# Altium integrated library Tx_Electrode_PA_Power.IntLib: 43 symbols
Pins are listed as number, name and electrical type; pins without a type are passive.

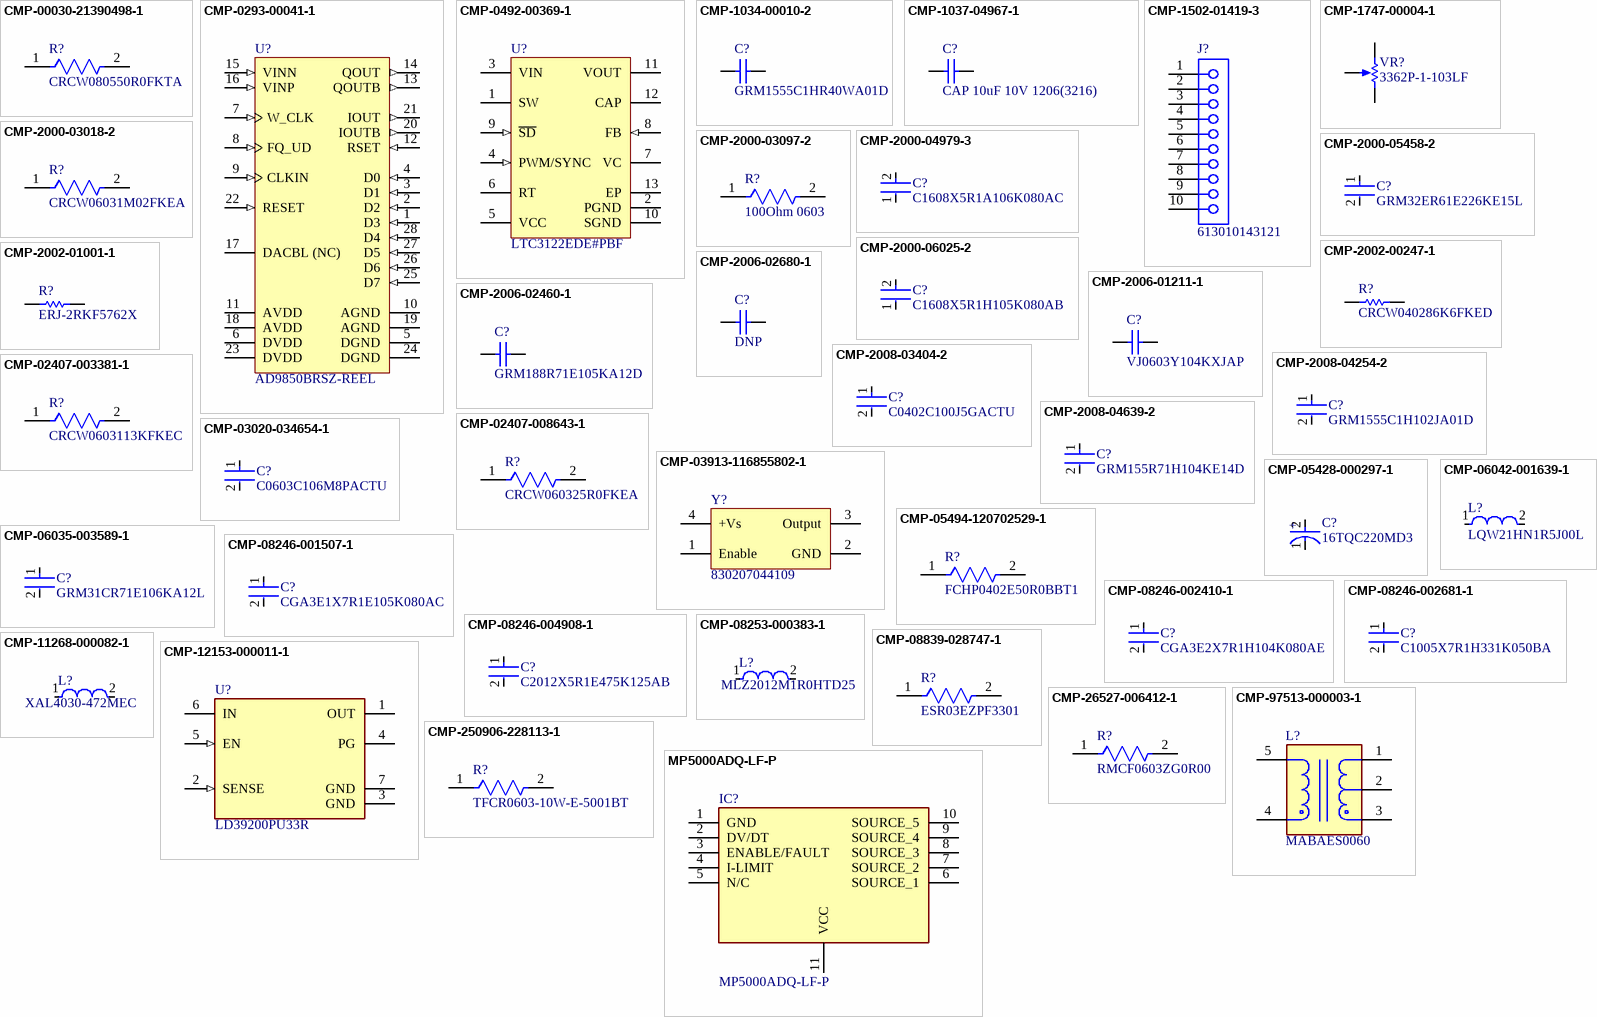
[diagram p0: symbols CMP-00030-21390498-1 to MP5000ADQ-LF-P]

## CMP-00030-21390498-1
designator R?, comment CRCW080550R0FKTA
CRCW080550R0FKTA Res Thick Film 0805 50 Ohm 1% 0.125W(1/8W) ±100ppm/C Pad SMD Automotive T/R; NexarPartId: 21390498; Manufacturer: Vishay; Temperature Coefficient: 100ppm/°C; Resistance: 50Ω; Voltage Rating: 150V; Power Rating: 125mW; Length: 2mm; Case Code (Imperial): 0805; Height: 450µm; Contact Plating: Lead, Tin; Width: 1.25mm; Max Operating Temperature: 155°C; Case Code (Metric): 2012; Min Operating Temperature: -55°C; Tolerance: 1%; Case/Package: 0805; Lead Free: Contains Lead; RoHS: Non-Compliant; Composition: Thick Film; Weight: 5.499807mg; Manufacturer Part Number: CRCW080550R0FKTA
footprint FP-D12-CRCW0805-MFG (SMD Chip Resistor, 5.23 kOhm, ± 1%, 125 mW, 0805 [2012 Metric], Thick Film, General Purpose)
footprint FP-D12-CRCW0805-IPC_A (SMD Chip Resistor, 5.23 kOhm, ± 1%, 125 mW, 0805 [2012 Metric], Thick Film, General Purpose)
footprint FP-D12-CRCW0805-IPC_B (SMD Chip Resistor, 5.23 kOhm, ± 1%, 125 mW, 0805 [2012 Metric], Thick Film, General Purpose)
footprint FP-D12-CRCW0805-IPC_C (SMD Chip Resistor, 5.23 kOhm, ± 1%, 125 mW, 0805 [2012 Metric], Thick Film, General Purpose)
pins: 1, 2

## CMP-0293-00041-1
designator U?, comment AD9850BRSZ-REEL
CMOS, 125 MHz Complete DDS Synthesizer, 10-Bit, Parallel, Serial, RS-28, 1500 Reel, Pb-Free; Manufacturer: Analog Devices; Tuning Word Width (bits): 32bit; Master fclk: 125MHz; Resolution (Bits): 10bit; REFCLK Multiplier: No; Compliance Range (V): 1.5V; FS Iout (mA nom): 20mA; I Supply total (max): 96mA; ComponentLink3Description: Package Specification; Code_JEDEC: MO-150-AH; ComponentLink1URL: www.analog.com; I/O Interface: Parallel, Serial; PackageDescription: 28-Lead Shrink Small Outline Package [SSOP]; ComponentLink2URL: http://www.analog.com/static/imported-files/data_sheets/AD9850.pdf; ComponentLink3URL: http://www.analog.com/static/imported-files/packages/32122249223724RS_28.pdf; ComponentLink2Description: Datasheet; PackageVersion: revA, 1997; ComponentLink1Description: Manufacturer URL; PackageReference: RS-28; DatasheetVersion: Rev. H; Manufacturer Part Number: AD9850BRSZ-REEL
footprint ADI-RS-28_N (SOP, 28-Leads, Body 10.2x5.3mm, Pitch 0.65mm, IPC Medium Density)
footprint ADI-RS-28_M (SOP, 28-Leads, Body 10.2x5.3mm, Pitch 0.65mm, IPC Low Density)
footprint ADI-RS-28_L (SOP, 28-Leads, Body 10.2x5.3mm, Pitch 0.65mm, IPC High Density)
pins: 1 D3 (in) "8-Bit Data Input. This is the 8-bit data port for iteratively loading the 32-bit frequency and the 8-bit phase/ control word. D7 = MSB; D0 = LSB. [see datasheet]", 2 D2 (in) "8-Bit Data Input. This is the 8-bit data port for iteratively loading the 32-bit frequency and the 8-bit phase/ control word. D7 = MSB; D0 = LSB. [see datasheet]", 3 D1 (in) "8-Bit Data Input. This is the 8-bit data port for iteratively loading the 32-bit frequency and the 8-bit phase/ control word. D7 = MSB; D0 = LSB. [see datasheet]", 4 D0 (in) "8-Bit Data Input. This is the 8-bit data port for iteratively loading the 32-bit frequency and the 8-bit phase/ control word. D7 = MSB; D0 = LSB. [see datasheet]", 5 DGND (power) "Digital Ground. These are the ground return leads for the digital circuitry", 6 DVDD (power) "Supply Voltage Leads for Digital Circuitry", 7 W_CLK (in) "Word Load Clock. This clock is used to load the parallel or serial frequency/phase/control words", 8 FQ_UD (in) "Frequency Update. On the rising edge of this clock, the DDS updates to the frequency (or phase) loaded in the data input register; it then resets the pointer to Word 0", 9 CLKIN (in) "Reference Clock Input. This may be a continuous CMOS-level pulse train or sine input biased at1/2 V supply. The rising edge of this clock initiates operatio", 10 AGND (power) "Analog Ground. These leads are the ground return for the analog circuitry (DAC and comparator)", 11 AVDD (power) "Supply Voltage for the Analog Circuitry (DAC and Comparator).", 12 RSET (in) "DAC’s External RSET Connection. This resistor value sets the DAC full-scale output current. For normal applications (FS IOUT = 10 mA), the value for RSET is 3.9 k? connected to ground. [see datasheet]", 13 QOUTB (out) "Output Complement. This is the comparator’s complement output.", 14 QOUT (out) "Output True. This is the comparator’s true output.", 15 VINN (in) "Inverting Voltage Input. This is the comparator’s negative input.", 16 VINP (in) "Noninverting Voltage Input. This is the comparator’s positive input.", 17 DACBL (NC) "DAC Baseline. This is the DAC baseline voltage reference; this lead is internally bypassed and should normally be considered a no connect for optimum performance", 18 AVDD (power) "Supply Voltage for the Analog Circuitry (DAC and Comparator).", 19 AGND (power) "Analog Ground. These leads are the ground return for the analog circuitry (DAC and comparator)", 20 IOUTB (out) "Complementary Analog Output of the DAC.", 21 IOUT (out) "Analog Current Output of the DAC.", 22 RESET (in) "Reset. This is the master reset function; when set high, it clears all registers (except the input register), and the DAC output goes to cosine 0 after additional clock cycles-see Figure 7", 23 DVDD (power) "Supply Voltage Leads for Digital Circuitry", 24 DGND (power) "Digital Ground. These are the ground return leads for the digital circuitry", 25 D7 (in) "8-Bit Data Input. This is the 8-bit data port for iteratively loading the 32-bit frequency and the 8-bit phase/ control word. D7 = MSB; D0 = LSB. [see datasheet]", 26 D6 (in) "8-Bit Data Input. This is the 8-bit data port for iteratively loading the 32-bit frequency and the 8-bit phase/ control word. D7 = MSB; D0 = LSB. [see datasheet]", 27 D5 (in) "8-Bit Data Input. This is the 8-bit data port for iteratively loading the 32-bit frequency and the 8-bit phase/ control word. D7 = MSB; D0 = LSB. [see datasheet]", 28 D4 (in) "8-Bit Data Input. This is the 8-bit data port for iteratively loading the 32-bit frequency and the 8-bit phase/ control word. D7 = MSB; D0 = LSB. [see datasheet]"

## CMP-0492-00369-1
designator U?, comment LTC3122EDE#PBF
2.5 A Synchronous Step-Up DC/DC Converter with Output Disconnect, 12-pin SON (DE-UE-12), -40 to 125 degC, Pb-Free; Manufacturer: Linear Technology; Manufacturer: Analog Devices; Number of Outputs: 1; ComponentLink2URL: http://cds.linear.com/docs/en/datasheet/3122fa.pdf; ComponentLink1URL: http://www.linear.com/; Code_JEDEC: MO-229; ComponentLink2Description: Datasheet; ComponentLink1Description: Manufacturer URL; PackageReference: DE-UE-12; PackageVersion: Rev. D, 06/2010; ComponentLink3Description: Package Specification; PackageDescription: 12-Pin Plastic DFN, Body 4 x 3 mm, Pitch 0.5 mm; PartNumber: LTC3122EDE#PBF; ComponentLink3URL: http://cds.linear.com/docs/en/packaging/DFN_12_05-08-1695.pdf; Mounting Technology: Surface Mount; RoHS: TRUE; DatasheetVersion: Rev. A; Manufacturer Part Number: LTC3122EDE#PBF
footprint LT-DE-UE-12_V (SON, 12-Leads, Body 4x3mm, Pitch 0.5mm, Thermal Pad 3.3x1.7mm)
pins: 1 SW "Switch Pin. Connect an inductor from this pin to VIN. Keep PCB trace lengths as short and wide as possible to reduce EMI and voltage overshoot. When VOUT >= VIN + 2V, an internal anti-ringing resistor is connected between SW (See Datasheet)", 2 PGND (power) "Power Ground. When laying out your PCB, provide a short, direct path between PGND and the output capacitor and tie directly to the ground plane. The exposed pad is ground and must be soldered to the PCB ground plane for (See Datasheet)", 3 VIN (power) "Input Supply Pin. The device is powered from VIN unless VOUT exceeds VIN and VIN is less than 3V. Place a low ESR ceramic bypass capacitor of at least 4.7uF from VIN to PGND. X5R and X7R dielectrics are preferred for their (See Datasheet)", 4 PWM/SYNC (in) "Burst Mode Operation Select and Oscillator Synchronization. Do not leave this pin floating.PWM/SYNC = High. Disable Burst Mode Operation and maintain low noise, constant frequency operation. PWM/SYNC = Low. The converter (See Datasheet)", 5 VCC (power) "VCC Regulator Output. Connect a low-ESR filter capacitor of at least 4.7uF from this pin to GND to provide a regulated rail approximately equal to the lower of VIN and 4.25V. When VOUT is higher than VIN, and VIN falls below (See Datasheet)", 6 RT "Frequency Adjust Pin. Connect an external resistor (RT) from this pin to SGND to program the oscillator frequency according to the formula: RT = 57.6/fOSC where fOSC is in MHz and RT is in kohm.", 7 VC "Error Amplifier Output. A frequency compensation network is connected to this pin to compensate the control loop. See Compensating the Feedback Loop section for guidelines.", 8 FB (in) "Feedback Input to the Error Amplifier. Connect the resistor divider tap to this pin. Connect the top of the divider to VOUT and the bottom of the divider to SGND. The output voltage can be adjusted from 2.2V to 15V according (See Datasheet)", 9 ~{SD} (in) "Logic Controlled Shutdown Input. Bringing this pin above 1.6V enables normal, free-running operation, forcing this pin below 0.25V shuts the LTC3122 down, with quiescent current below 1uA. Do not leave this pin floating.", 10 SGND (power) "Signal Ground. When laying out a PC board, provide a short, direct path between SGND and the (-) side of the output capacitor.", 11 VOUT (power) "Output Voltage Sense and the Source of the Internal Synchronous Rectifier MOSFET. Driver bias is derived from VOUT. Connect the output filter capacitor from VOUT to PGND, as close to the IC as possible. A minimum value of (See Datasheet)", 12 CAP "Serves as the Low Reference for the Synchronous Rectifier Gate Drive. Connect a low ESR filter capacitor (typically 100nF) from this pin to VOUT to provide an elevated ground rail, approximately 5.6V below VOUT, used to (See Datasheet)", 13 EP (power) "Power Ground. When laying out your PCB, provide a short, direct path between PGND and the output capacitor and tie directly to the ground plane. The exposed pad is ground and must be soldered to the PCB ground plane for (See Datasheet)"

## CMP-1034-00010-2
designator C?, comment GRM1555C1HR40WA01D
Manufacturer: Murata; Part Number: GRM1555C1HR40WA01D; Manufacturer Part Number: GRM1555C1HR40WA01D
footprint CAPC1005X55X25LL05T10 (Chip Capacitor, 2-Leads, Body 1.00x0.50mm, IPC High Density)
footprint CAPC1005X55X25NL05T10 (Chip Capacitor, 2-Leads, Body 1.00x0.50mm, IPC Medium Density)
footprint CAPC1005X55X25ML05T10 (Chip Capacitor, 2-Leads, Body 1.00x0.50mm, IPC Low Density)
pins: 1, 2
1 alternate drawing of the same symbol

## CMP-1037-04967-1
designator C?, comment CAP 10uF 10V 1206(3216)
CAP 10uF 10V ±10% 1206 (3216 Metric) Thickness 1.9mm SMD; Manufacturer: TDK; Manufacturer Part Number: C3216X7R1A106K; Manufacturer: Yageo Group; Manufacturer Part Number: CC1206KKX5R6BB106; Manufacturer: KYOCERA AVX; Manufacturer Part Number: 1206ZD106KAT2A; Manufacturer: Kyocera / AVX; Manufacturer Part Number: CC1206KKX7R6BB106; Manufacturer: KEMET; Manufacturer Part Number: C1206C106K8RAC; Manufacturer Part Number: C1206C106K8PACTU; Manufacturer Part Number: C1206C106K8RACTM; Manufacturer Part Number: C3216X5R1A106K; Manufacturer Part Number: C1206C106K8PAC; Manufacturer Part Number: C1206C106K8RACTU; Manufacturer: Vishay; Manufacturer Part Number: VJ1206G106KXQTW1BC; Manufacturer: Murata; Manufacturer Part Number: GRM31CR71A106KA01L; Tolerance: Â±10%; Case-Metric: 3216; Case-EIA: 1206; Rated Voltage: 10 V; Max Thickness: 1.9 mm; Technology: SMT; Value: 10uF
footprint CAPC1206(3216)190_L (Chip Capacitor, Body 3.2x1.6mm, Height 1.9mm, IPC High Density)
footprint CAPC1206(3216)190_N (Chip Capacitor, Body 3.2x1.6mm, Height 1.9mm, IPC Medium Density)
footprint CAPC1206(3216)190_M (Chip Capacitor, Body 3.2x1.6mm, Height 1.9mm, IPC Low Density)
pins: 1, 2
1 alternate drawing of the same symbol

## CMP-1502-01419-3
designator J?, comment 613010143121
NexarPartId: 18818161; Manufacturer: Wurth Elektronik; Operating Supply Voltage: 250V; Contact Resistance: 20mΩ; Gender: Female; Insulation Resistance: 1GΩ; Connector Type: Header, Socket; Insulation: Insulated; Current Rating: 3A; Number of Positions: 10; Pitch: 2.54mm; Number of Rows: 1; Number of Pins: 10; Voltage Rating: 250V; Length: 25.9mm; Contact Gender: Female; RoHS: Compliant; Contact Plating: Gold; Height: 8.5mm; Min Operating Temperature: -40°C; Contact Material: Copper; Number of Contacts: 10; REACH SVHC: Unknown; Mount: Through Hole; Lead Pitch: 2.54mm; Width: 25.9mm; Max Operating Temperature: 125°C; Flammability Rating: UL94 V-0; Termination: Through Hole; Color: Black; Housing Material: PBT; Manufacturer Part Number: 613010143121
footprint 613010143121 (Socket header, 2.54mm pitch, single row, right angle, 10 Pins)
pins: 1, 2, 3, 4, 5, 6, 7, 8, 9, 10

## CMP-1747-00004-1
designator VR?, comment 3362P-1-103LF
Square Trimpot(R) Trimming Potentiometer, 10 KOhm, 300 V, -55 to 125 degC, 3-Pin THD, RoHS, Tube; Manufacturer: Bourns; Voltage Rating: 220 mV; Power Rating: 1 W; Tolerance: 1%; Resistance: 50 mohm; Case/Package: 1206; Length: 3.2 mm; RoHSCompliant: True; PackageDescription: 3-Pin Through Hole Device, Body 6.6 x 6.99 mm, Pitch 2.54 mm; ComponentLink2Description: Datasheet; REACH SVHC: No SVHC; Mount: Surface Mount; Height: 0.6 mm; Packaging: Tape and Reel; ComponentLink1URL: http://www.bourns.com/; Case Code (Imperial): 0612; Pins: 2; Case Code (Metric): 1632; ComponentLink2URL: http://www.bourns.com/docs/Product-Datasheets/3362.pdf; Min Operating Temperature: -25degC; ComponentLink1Description: Manufacturer URL; PackageReference: 3326P; Max Operating Temperature: 125degC; Width: 1.6 mm; Package Quantity: 5000; DatasheetVersion: May-16; Manufacturer Part Number: 3362P-1-103LF
footprint BOUR-3362P (THD, 3-Leads, Body 6.6x6.99mm, Pitch 2.54mm)
pins: 1 CCW, 2 S, 3 CW

## CMP-2000-03018-2
designator R?, comment CRCW06031M02FKEA
RES Thick Film, 1.02MΩ, 1%, 0.1W, 100ppm/°C, 0603; Manufacturer: Vishay; Voltage Rating (DC): 75V; Power Rating: 100mW; Resistance: 1.02MR; Features: Automotive AEC-Q200; Depth: 0.85mm; Max Operating Temperature: 155°C; Tolerance: 1%; Package Quantity: 10; Length: 1.55mm; Mount: Surface Mount; Termination: SMD/SMT; Width: 0.033inch; Temperature Coefficient: 100ppm/°C; Min Operating Temperature: -55°C; Composition: Thick Film; Max Power Dissipation: 100mW; Case Code (Imperial): 0603; Case/Package: 0603; Voltage Rating: 75V; Contact Plating: Tin; Case Code (Metric): 1608; Weight: 7.1E-05oz; Lead Free: Lead Free; Height: 0.02inch; Military Standard: Not; Number of Terminations: 2; Radiation Hardening: No; Packaging: Tape and Reel; Manufacturer Part Number: CRCW06031M02FKEA
footprint FP-CRCW0603-e3-IPC_A
footprint FP-CRCW0603-e3-MFG
footprint FP-CRCW0603-e3-IPC_B
footprint FP-CRCW0603-e3-IPC_C
pins: 1, 2

## CMP-2000-03097-2
designator R?, comment 100Ohm 0603
Manufacturer: Vishay; Manufacturer Part Number: CRCW060322R0FKEA; Voltage Rating: 75V; Temperature Coefficient: 100ppm/°C; Power Rating: 100mW; Resistance: 22R; Tolerance: 1%; Lead Free: Lead Free; Height: 0.45mm; Package Quantity: 5000; Weight: 7.1E-05oz; Width: 0.85mm; Length: 1.55mm; Mount: Surface Mount; Packaging: Tape and Reel; Termination: SMD/SMT; Case/Package: 0603; Case Code (Metric): 1608; Radiation Hardening: No; Max Operating Temperature: 155°C; Military Standard: Not; Min Operating Temperature: -55°C; Case Code (Imperial): 0603; Contact Plating: Tin; Voltage Rating (DC): 75V; Depth: 0.85mm; Composition: Thick Film
footprint FP-CRCW0603-e3-IPC_B
footprint FP-CRCW0603-e3-IPC_C
footprint FP-CRCW0603-e3-IPC_A
footprint FP-CRCW0603-e3-MFG
pins: 1, 2

## CMP-2000-04979-3
designator C?, comment C1608X5R1A106K080AC
Multilayer Ceramic Capacitors 10μF ±10% 10V X5R SMD 0603; Manufacturer: TDK; Capacitance: 10uF; Dielectric Material: Ceramic; Construction: Flat; Height: 0.8mm; Thickness: 0.035inch; Case Code (Metric): 1608; Radiation Hardening: No; Number of Pins: 2; Voltage Rating (DC): 10V; Depth: 0.8mm; Voltage: 10V; RoHS Compliant: Yes; Voltage Rating: 10V; Package Quantity: 1; Resistor Type: Ceramic; Termination: SMD/SMT; Lead Free: Lead Free; REACH SVHC: No SVHC; Tolerance: 10%; Mount: Surface Mount; Series: C; Packaging: Tape and Reel; Width: 0.8mm; Dielectric: X5R; Weight: 7.1E-05oz; Length: 1.6mm; Max Operating Temperature: 85°C; Case Code (Imperial): 0603; Case/Package: 0603; Min Operating Temperature: -55°C; Manufacturer Part Number: C1608X5R1A106K080AC
footprint FP-C1608-080-0_1-MFG
footprint FP-C1608-080-0_1-IPC_C
footprint FP-C1608-080-0_1-IPC_A
footprint FP-C1608-080-0_1-IPC_B
pins: 1, 2

## CMP-2000-05458-2
designator C?, comment GRM32ER61E226KE15L
CAP CER 22UF 25V X5R 1210; Manufacturer: Murata Electronics North America; Manufacturer: Murata; Possible Substitute: GRM32ER61E226KE15K; Other Names: 490-3889-2; Material: Ceramic; Tolerance: 10%; Digikey Description: CAP CER 22UF 25V X5R 1210; Mouser Description: Multilayer Ceramic Capacitors MLCC - SMD/SMT 1210 22uF 25volts X5R 10%; Device Class L2: Capacitors; Height: 2.7mm; Temperature Characteristic: X5R; Category: Cap; RoHS: TRUE; Operating Temperature: -55°C ~ 85°C; Temperature: -55°C to +85°C; Lead Free: Yes; Package: GRM32; Temperature Range High: +85°C; Package / Case: 1210 (3225 Metric); Standard Package: 1,000; Packaging: Cut Tape (CT); Capacitance: 22uF; Thickness (Max): 0.106" (2.70mm); Value: 22uF; Automotive: No; Device Class L1: Passive Components; Voltage - Rated: 25V; Temperature Range Low: -55°C; Size / Dimension: 0.126" L x 0.098" W (3.20mm x 2.50mm); ComponentLink2Description: Datasheet; Device Class L3: Ceramic Capacitors; Temperature Coefficient: X5R; ComponentLink2URL: https://search.murata.co.jp/Ceramy/image/img/A01X/G101/ENG/GRM32ER61E226KE15-01A.pdf; Voltage Rating: 25V; Manufacturer Part Number: GRM32ER61E226KE15L; Octopart: https://octopart.com/grm32er61e226ke15l-murata-197441; Applications: General Purpose; Mounting Type: Surface Mount, MLCC
footprint FP-GRM32-MFG
footprint FP-GRM32-IPC_C
footprint FP-GRM32-IPC_B
footprint FP-GRM32-IPC_A
pins: 1, 2

## CMP-2000-06025-2
designator C?, comment C1608X5R1H105K080AB
Multilayer Ceramic Capacitors 1μF ±10% 50V X5R SMD 0603; Manufacturer: TDK; Capacitance: 1uF; Lead Free: Lead Free; Height: 0.8mm; Mount: Surface Mount; Radiation Hardening: No; Thickness: 0.035inch; Length: 1.6mm; Max Operating Temperature: 85°C; REACH SVHC: No SVHC; Min Operating Temperature: -55°C; Construction: Flat; RoHS Compliant: Yes; Voltage Rating: 50V; Dielectric: X5R; Packaging: Tape and Reel; Termination: SMD/SMT; Voltage Rating (DC): 50V; Case Code (Imperial): 0603; Voltage: 50V; Width: 0.031inch; Weight: 7.1E-05oz; Depth: 0.8mm; Case Code (Metric): 1608; Series: C; Case/Package: 0603; Tolerance: 10%; Resistor Type: Ceramic; Number of Pins: 2; Dielectric Material: Ceramic; Package Quantity: 1; Manufacturer Part Number: C1608X5R1H105K080AB
footprint FP-C1608-080-0_1-IPC_B
footprint FP-C1608-080-0_1-MFG
footprint FP-C1608-080-0_1-IPC_A
footprint FP-C1608-080-0_1-IPC_C
pins: 1, 2

## CMP-2002-00247-1
designator R?, comment CRCW040286K6FKED
Manufacturer: Vishay Dale; Manufacturer: Vishay; Part Number: CRCW040286K6FKED; Manufacturer Part Number: CRCW040286K6FKED
footprint RESC1005X40X25NL05T05 (Chip Resistor, 2-Leads, Body 1.00x0.50mm, IPC Medium Density)
footprint RESC1005X40X25LL05T05 (Chip Resistor, 2-Leads, Body 1.00x0.50mm, IPC High Density)
footprint RESC1005X40X25ML05T05 (Chip Resistor, 2-Leads, Body 1.00x0.50mm, IPC Low Density)
pins: 1, 2
1 alternate drawing of the same symbol

## CMP-2002-01001-1
designator R?, comment ERJ-2RKF5762X
Manufacturer: Panasonic; Part Number: ERJ-2RKF5762X; Manufacturer Part Number: ERJ-2RKF5762X
footprint RESC1005X40X25NL05T05 (Chip Resistor, 2-Leads, Body 1.00x0.50mm, IPC Medium Density)
footprint RESC1005X40X25ML05T05 (Chip Resistor, 2-Leads, Body 1.00x0.50mm, IPC Low Density)
footprint RESC1005X40X25LL05T05 (Chip Resistor, 2-Leads, Body 1.00x0.50mm, IPC High Density)
pins: 1, 2
1 alternate drawing of the same symbol

## CMP-2006-01211-1
designator C?, comment VJ0603Y104KXJAP
Manufacturer: Vitramon; Manufacturer: Vishay; Part Number: VJ0603Y104KXJAP; Manufacturer Part Number: VJ0603Y104KXJAP
footprint CAPC1608X92X38NL15T08 (Chip Capacitor, 2-Leads, Body 1.60x0.80mm, IPC Medium Density)
footprint CAPC1608X92X38ML15T08 (Chip Capacitor, 2-Leads, Body 1.60x0.80mm, IPC Low Density)
footprint CAPC1608X92X38LL15T08 (Chip Capacitor, 2-Leads, Body 1.60x0.80mm, IPC High Density)
pins: 1, 2
1 alternate drawing of the same symbol

## CMP-2006-02460-1
designator C?, comment GRM188R71E105KA12D
Manufacturer: Murata; Part Number: GRM188R71E105KA12D; Manufacturer Part Number: GRM188R71E105KA12D
footprint CAPC1608X90X35ML10T15 (Chip Capacitor, 2-Leads, Body 1.60x0.80mm, IPC Low Density)
footprint CAPC1608X90X35NL10T15 (Chip Capacitor, 2-Leads, Body 1.60x0.80mm, IPC Medium Density)
footprint CAPC1608X90X35LL10T15 (Chip Capacitor, 2-Leads, Body 1.60x0.80mm, IPC High Density)
pins: 1, 2
1 alternate drawing of the same symbol

## CMP-2006-02680-1
designator C?, comment DNP
GRM1885C1H560JA01D; Manufacturer: Murata; Part Number: GRM1885C1H560JA01D; Manufacturer Part Number: GRM1885C1H560JA01D
footprint CAPC1608X90X35NL10T15 (Chip Capacitor, 2-Leads, Body 1.60x0.80mm, IPC Medium Density)
footprint CAPC1608X90X35ML10T15 (Chip Capacitor, 2-Leads, Body 1.60x0.80mm, IPC Low Density)
footprint CAPC1608X90X35LL10T15 (Chip Capacitor, 2-Leads, Body 1.60x0.80mm, IPC High Density)
pins: 1, 2
1 alternate drawing of the same symbol

## CMP-2008-03404-2
designator C?, comment C0402C100J5GACTU
Multilayer Ceramic Capacitor, C Series, 10 Pf, - 5%, C0G / Np0, 50 V, 0402 [1005 Metric] Rohs Compliant: Yes; Manufacturer: Kemet; Temperature Coefficient: 15%; Voltage Rating: 50 V; Capacitance: 10 pF; Value: 10 pF; Tolerance: 0.05; Automotive: No; Temperature Range High: +125°C; ComponentLink2Description: Datasheet; Manufacturer Part Number: C0402C100J5GACTU; Material: Ceramic; Lead Free: Yes; ComponentLink2URL: https://content.kemet.com/datasheets/KEM_C1002_X7R_SMD.pdf; Device Class L3: Ceramic Capacitors; RoHS: TRUE; Package: C0402-BB; Temperature: -55°C to +125°C; Temperature Range Low: -55°C; Height: 0.55mm; Mouser Description: Multilayer Ceramic Capacitor, C Series, 10 Pf, - 5%, C0G / Np0, 50 V, 0402 [1005 Metric] Rohs Compliant: Yes; Octopart: https://octopart.com/c0402c100j5gactu-kemet-108448; Digikey Description: Multilayer Ceramic Capacitor, C Series, 10 Pf, - 5%, C0G / Np0, 50 V, 0402 [1005 Metric] Rohs Compliant: Yes; Temperature Characteristic: C0G; Category: Cap; Ipc Land Pattern Name: CAPC10050X50; Device Class L1: Passive Components; Device Class L2: Capacitors; Manufacturer: KEMET
footprint FP-C0402-BB-MFG
footprint FP-C0402-BB-IPC_C
footprint FP-C0402-BB-IPC_B
footprint FP-C0402-BB-IPC_A
pins: 1, 2

## CMP-2008-04254-2
designator C?, comment GRM1555C1H102JA01D
Chip Multilayer Ceramic Capacitors for General Purpose, 0402, 1000pF, C0G, 30ppm/°C, 5%, 50V; Manufacturer: Murata; Insulation Resistance: 10GR; Capacitance: 1nF; Packaging: Tape and Reel; Lead Free: Lead Free; Tolerance: 5%; Temperature Coefficient: 30ppm/°C; Thickness: 0.022inch; Termination: SMD/SMT; Max Operating Temperature: 125°C; Height: 0.5mm; Package Quantity: 1; Radiation Hardening: No; Material: Ceramic; Case Code (Metric): 1005; Number of Pins: 2; Voltage Rating: 50V; Mount: Surface Mount; Voltage: 50V; Case/Package: 0402; Min Operating Temperature: -55°C; Dielectric Material: Ceramic; Width: 0.5mm; Depth: 0.5mm; Case Code (Imperial): 0402; REACH SVHC: No SVHC; Dielectric: C0G; Voltage Rating (DC): 50V; Length: 1mm; Manufacturer Part Number: GRM1555C1H102JA01D
footprint FP-GRM155-0_05-IPC_B
footprint FP-GRM155-0_05-IPC_A
footprint FP-GRM155-0_05-MFG
footprint FP-GRM155-0_05-IPC_C
pins: 1, 2

## CMP-2008-04639-2
designator C?, comment GRM155R71H104KE14D
Chip Multilayer Ceramic Capacitors for General Purpose, 0402, 0.10uF, X7R, 15%, 10%, 50V; Manufacturer: Murata; Dissipation Factor: 0.025%; Capacitance: 100nF; Weight: 0.000212oz; Thickness: 0.022inch; Voltage Rating (DC): 50V; Dielectric Material: Ceramic; Termination: SMD/SMT; Case/Package: 0402; Case Code (Imperial): 0402; Mount: Surface Mount; REACH SVHC: No SVHC; Resistor Type: Ceramic; Dielectric: X7R; Max Operating Temperature: 125°C; Voltage: 50V; Lead Free: Lead Free; Package Quantity: 10000; Packaging: Tape and Reel; Length: 1mm; Material: Ceramic; Height: 0.5mm; Depth: 0.5mm; Width: 0.5mm; Min Operating Temperature: -55°C; Tolerance: 10%; Case Code (Metric): 1005; Voltage Rating: 50V; Manufacturer Part Number: GRM155R71H104KE14D
footprint FP-GRM155-0_05-IPC_B
footprint FP-GRM155-0_05-IPC_A
footprint FP-GRM155-0_05-IPC_C
footprint FP-GRM155-0_05-MFG
pins: 1, 2

## CMP-02407-003381-1
designator R?, comment CRCW0603113KFKEC
RES Thick Film, 113kΩ, 1%, 0.1W, 100ppm/°C, 0603; Manufacturer: Vishay; Power Rating: 100mW; Resistance: 113kR; Packaging: Tape and Reel; Width: 0.033inch; Lead Free: Lead Free; Case/Package: 0603; Height: 0.02inch; Length: 0.061inch; Max Power Dissipation: 100mW; Composition: Thick Film; Tolerance: 1%; Number of Terminations: 2; Max Operating Temperature: 155°C; Min Operating Temperature: -55°C; Temperature Coefficient: 100ppm/°C; Features: Automotive AEC-Q200; Package Quantity: 20000; Manufacturer Part Number: CRCW0603113KFKEC
footprint FP-CRCW0603-e3-MFG
footprint FP-CRCW0603-e3-IPC_B
footprint FP-CRCW0603-e3-IPC_A
footprint FP-CRCW0603-e3-IPC_C
pins: 1, 2

## CMP-02407-008643-1
designator R?, comment CRCW060325R0FKEA
RES Thick Film, 25Ω, 1%, 0.1W, 100ppm/°C, 0603; Manufacturer: Vishay; Resistance: 25R; Power Rating: 100mW; Case/Package: 0603; Lead Free: Lead Free; Tolerance: 1%; Manufacturer Part Number: CRCW060325R0FKEA
footprint FP-CRCW0603-e3-IPC_B
footprint FP-CRCW0603-e3-IPC_A
footprint FP-CRCW0603-e3-IPC_C
footprint FP-CRCW0603-e3-MFG
pins: 1, 2

## CMP-03020-034654-1
designator C?, comment C0603C106M8PACTU
CAP CER 10UF 10V X5R 0603; Manufacturer: KEMET; RoHS Compliant: Yes; Manufacturer Part Number: C0603C106M8PACTU
footprint FP-C0603C106M8PACTU-MFG
footprint FP-C0603C106M8PACTU-IPC_C
footprint FP-C0603C106M8PACTU-IPC_B
footprint FP-C0603C106M8PACTU-IPC_A
pins: 1, 2

## CMP-03913-116855802-1
designator Y?, comment 830207044109
830207044109 WE-SPXO Crystal Oscillator; NexarPartId: 116855802; Manufacturer: Wurth Elektronik; Frequency: 100MHz; Length: 3.2mm; Width: 2.5mm; Max Operating Temperature: 85°C; Height: 1.2mm; Min Operating Temperature: -40°C; Manufacturer Part Number: 830207044109
footprint WE-SPXO_CFPS-39 (WE-SPXO Crystal Oscillator)
pins: 1 Enable, 2 GND, 3 Output, 4 +Vs

## CMP-05428-000297-1
designator C?, comment 16TQC220MD3
Molded Tantalum Polymer Capacitor 220uF 20% 16V life 2000Hours SMD 2917; Manufacturer: Panasonic; RoHS Compliant: Yes; Manufacturer Part Number: 16TQC220MD3
footprint FP-POSCAP-D3L-MFG
pins: 1 C, 2 A
text: +

## CMP-05494-120702529-1
designator R?, comment FCHP0402E50R0BBT1
FCHP0402E50R0BBT1 SMD Chip Resistor, 50 Ohm, ± 0.1%, 1 W, 0402 [1005 Metric], Thin Film, High Frequency; NexarPartId: 120702529; Manufacturer: Vishay; Power Rating: 1W; Voltage Rating: 30V; Temperature Coefficient: 25ppm/°C; Resistance: 50Ω; Max Operating Temperature: 155°C; Min Operating Temperature: -55°C; Composition: Thin Film; Schedule B: 8533210045; Case/Package: 0402; Tolerance: 0.1%; Height: 419.1µm; Manufacturer Part Number: FCHP0402E50R0BBT1
footprint FP-FC0402-MFG (SMD Chip Resistor, 50 Ohm, ± 1%, 50 mW, 0402 [1005 Metric], Thin Film, High Frequency)
footprint FP-FC0402-IPC_A (SMD Chip Resistor, 50 Ohm, ± 1%, 50 mW, 0402 [1005 Metric], Thin Film, High Frequency)
footprint FP-FC0402-IPC_B (SMD Chip Resistor, 50 Ohm, ± 1%, 50 mW, 0402 [1005 Metric], Thin Film, High Frequency)
footprint FP-FC0402-IPC_C (SMD Chip Resistor, 50 Ohm, ± 1%, 50 mW, 0402 [1005 Metric], Thin Film, High Frequency)
pins: 1, 2

## CMP-06035-003589-1
designator C?, comment GRM31CR71E106KA12L
Chip Multilayer Ceramic Capacitors for General Purpose, 1206, 10uF, X7R, 15%, 10%, 25V; Manufacturer: Murata; Case Code (Imperial): 1206; Voltage Rating (DC): 25V; Voltage Rating: 25V; Length: 3.2mm; Lead Free: Lead Free; Thickness: 0.071inch; Package Quantity: 1; Width: 1.6mm; Max Operating Temperature: 125°C; Number of Pins: 2; Height: 1.6mm; Case Code (Metric): 3216; REACH SVHC: No SVHC; Radiation Hardening: No; Case/Package: 1206; Material: Ceramic; Tolerance: 10%; Voltage: 25V; Mount: Surface Mount; Packaging: Tape and Reel; Dielectric: X7R; Termination: SMD/SMT; Min Operating Temperature: -55°C; Capacitance: 10uF; Depth: 1.6mm; Manufacturer Part Number: GRM31CR71E106KA12L
footprint FP-GRM31C-0_2-e0_3_0_8-MFG
footprint FP-GRM31C-0_2-e0_3_0_8-IPC_C
footprint FP-GRM31C-0_2-e0_3_0_8-IPC_B
footprint FP-GRM31C-0_2-e0_3_0_8-IPC_A
pins: 1, 2

## CMP-06042-001639-1
designator L?, comment LQW21HN1R5J00L
Wire Wound Ferrite type RF Inuctor 1.5uH ±5% 85mA 5.33Ω 0805 (2012); Manufacturer: Murata; DC Resistance (DCR): 5.33R; Self Resonant Frequency: 350MHz; Shielding: Unshielded; Test Frequency: 10MHz; Q Factor: 35; Width: 0.047inch; Core Material: Ferrite; Case Code (Metric): 2012; DC Current: 85mA; Current Rating: 85mA; Mount: Surface Mount; Max DC Current: 85mA; Length: 2mm; Height - Seated (Max): 0.039inch; Depth: 1.4mm; Min Operating Temperature: -40°C; Termination: SMD/SMT; Military Standard: Not; Radiation Hardening: No; Packaging: Tape and Reel; Resistor Type: Wirewound; Case/Package: 0805; Case Code (Imperial): 0805; Inductance: 1.5uH; Weight: 0.000282oz; Height: 0.9mm; Package Quantity: 3000; Max Operating Temperature: 85°C; Tolerance: 5%; Manufacturer Part Number: LQW21HN1R5J00L
footprint FP-LQW21HN_00-MFG
pins: 1, 2

## CMP-08246-001507-1
designator C?, comment CGA3E1X7R1E105K080AC
Cap Ceramic 1uF 25V X7R 10% Pad SMD 0603 +125°C Automotive T/R; Manufacturer: TDK; Dielectric: X7R; Capacitance: 1uF; Voltage Rating: 25V; Thickness: 0.035inch; Width: 0.031inch; Ratings: AEC-Q200; Case Code (Metric): 1608; REACH SVHC: No SVHC; Voltage: 25V; Composition: Ceramic; Min Operating Temperature: -55°C; Termination: SMD/SMT; Depth: 0.8mm; Max Operating Temperature: 125°C; Mount: Surface Mount; Weight: 7.1E-05oz; Package Quantity: 4000; Tolerance: 10%; Packaging: Tape and Reel; Lead Free: Lead Free; Case/Package: 0603; Length: 1.6mm; Height: 0.8mm; Case Code (Imperial): 0603; Voltage Rating (DC): 25V; Manufacturer Part Number: CGA3E1X7R1E105K080AC
footprint FP-CGA3E-0_3-0_1-IPC_A
footprint FP-CGA3E-0_3-0_1-IPC_B
footprint FP-CGA3E-0_3-0_1-IPC_C
footprint FP-CGA3E-0_3-0_1-MFG
pins: 1, 2

## CMP-08246-002410-1
designator C?, comment CGA3E2X7R1H104K080AE
Cap Ceramic 100nF 50V X7R 10% Pad SMD 0603 +125°C Automotive T/R; Manufacturer: TDK; Thickness: 0.035inch; Dielectric: X7R; Height: 0.8mm; Min Operating Temperature: -55°C; Package Quantity: 4000; Voltage Rating: 50V; Voltage Rating (DC): 50V; Lead Free: Lead Free; Case Code (Metric): 1608; Ratings: AEC-Q200; Capacitance: 100nF; Length: 0.063inch; Width: 0.8mm; Weight: 7.1E-05oz; Case/Package: 0603; Case Code (Imperial): 0603; Termination: SMD/SMT; Mount: Surface Mount; Packaging: Tape and Reel; Max Operating Temperature: 125°C; Tolerance: 10%; Features: Soft Termination; Manufacturer Part Number: CGA3E2X7R1H104K080AE
footprint FP-CGA3E-0_3-0_1-IPC_A
footprint FP-CGA3E-0_3-0_1-MFG
footprint FP-CGA3E-0_3-0_1-IPC_C
footprint FP-CGA3E-0_3-0_1-IPC_B
pins: 1, 2

## CMP-08246-002681-1
designator C?, comment C1005X7R1H331K050BA
Multilayer Ceramic Capacitors 330pF ±10% 50V X7R SMD 0402; Manufacturer: TDK; Height: 0.5mm; Min Operating Temperature: -55°C; Construction: Flat; Voltage Rating (DC): 50V; Depth: 0.5mm; Number of Pins: 2; Capacitance: 330pF; Case/Package: 0402; REACH SVHC: No SVHC; Lead Free: Lead Free; Thickness: 0.022inch; Package Quantity: 1; Case Code (Imperial): 0402; Max Operating Temperature: 125°C; RoHS Compliant: Yes; Voltage Rating: 50V; Length: 1mm; Weight: 2.3E-05oz; Width: 0.02inch; Case Code (Metric): 1005; Dielectric Material: Ceramic; Tolerance: 10%; Mount: Surface Mount; Dielectric: X7R; Series: C; Resistor Type: Ceramic; Termination: SMD/SMT; Packaging: Tape and Reel; Manufacturer Part Number: C1005X7R1H331K050BA
footprint FP-C1005-050-0_05-IPC_B
footprint FP-C1005-050-0_05-IPC_A
footprint FP-C1005-050-0_05-IPC_C
footprint FP-C1005-050-0_05-MFG
pins: 1, 2

## CMP-08246-004908-1
designator C?, comment C2012X5R1E475K125AB
Multilayer Ceramic Capacitors 4.7μF ±10% 25V X5R SMD 0805; Manufacturer: TDK; Capacitance: 4.7uF; Lead Free: Lead Free; Thickness: 0.057inch; Packaging: Tape and Reel; Min Operating Temperature: -55°C; RoHS Compliant: Yes; Dielectric: X5R; Weight: 0.000194oz; REACH SVHC: No SVHC; Voltage Rating (DC): 25V; Mount: Surface Mount; Resistor Type: Ceramic; Termination: SMD/SMT; Number of Pins: 2; Case Code (Imperial): 0805; Dielectric Material: Ceramic; Voltage: 25V; Voltage Rating: 25V; Case Code (Metric): 2012; Case/Package: 0805; Max Operating Temperature: 85°C; Height: 1.25mm; Tolerance: 10%; Depth: 1.25mm; Package Quantity: 1; Length: 2mm; Radiation Hardening: No; Width: 1.25mm; Manufacturer Part Number: C2012X5R1E475K125AB
footprint FP-C2012-125-0_2-MFG
footprint FP-C2012-125-0_2-IPC_A
footprint FP-C2012-125-0_2-IPC_C
footprint FP-C2012-125-0_2-IPC_B
pins: 1, 2

## CMP-08253-000383-1
designator L?, comment MLZ2012M1R0HTD25
Shielded Multilayer Inductor 1uH ±20% 800mA 130mΩ AEC-Q200 SMD 0805; Manufacturer: TDK; Core Material: Ferrite; Test Frequency: 2MHz; DC Resistance (DCR): 130mR; Saturation Current: 700mA; Height: 1.25mm; Min Operating Temperature: -55°C; Max DC Current: 800mA; Mount: Surface Mount; Height - Seated (Max): 0.057inch; Tolerance: 20%; Package Quantity: 2000; Case/Package: 0805; Current Rating: 800mA; Inductance: 1uH; Case Code (Metric): 2012; Max Operating Temperature: 125°C; RoHS Compliant: Yes; Case Code (Imperial): 0805; Shielding: Shielded; Ratings: AEC-Q200; Length: 0.079inch; Termination: SMD/SMT; Packaging: Tape and Reel; Width: 0.049inch; Weight: 0.000194oz; Manufacturer Part Number: MLZ2012M1R0HTD25
footprint FP-MLZ2012-1_25-IPC_C
footprint FP-MLZ2012-1_25-IPC_A
footprint FP-MLZ2012-1_25-IPC_B
footprint FP-MLZ2012-1_25-MFG
pins: 1, 2

## CMP-08839-028747-1
designator R?, comment ESR03EZPF3301
3.3kΩ ±1% 0.25W 0603 Anti-Surge Chip Resistor AEC-Q200; Manufacturer: ROHM; Temperature Coefficient: 100ppm/°C; Resistance: 3.3kR; Max Power Dissipation: 250mW; Tolerance: 1%; Min Operating Temperature: -55°C; Features: Automotive AEC-Q200; Max Operating Temperature: 155°C; Number of Terminations: 2; Series: ESR; Packaging: Tape and Reel; Resistor Type: Thick Film; RoHS Compliant: Yes; Case/Package: 0603; Manufacturer Part Number: ESR03EZPF3301
footprint FP-ESR03-IPC_A
footprint FP-ESR03-IPC_B
footprint FP-ESR03-MFG
footprint FP-ESR03-IPC_C
pins: 1, 2

## CMP-11268-000082-1
designator L?, comment XAL4030-472MEC
Power Inductor (SMD), 4.7 µH, 5.1 A, Shielded, 4.5 A, XAL40xx Series, 4mm x 4mm x 3.1mm; Manufacturer: Coilcraft; Tolerance: 20%; DC Resistance (DCR): 44.1mR; Inductance: 4.7uH; Saturation Current: 4.5A; Max DC Current: 5.1A; Self Resonant Frequency: 36MHz; Test Frequency: 100kHz; Core Material: Composite; REACH SVHC: No SVHC; Height: 3.1mm; Package Quantity: 500; Width: 4.3mm; Mount: Surface Mount; RoHS Compliant: Yes; Case/Package: SMD/SMT; Length: 4.3mm; Packaging: Tape and Reel; Max Operating Temperature: 125°C; Min Operating Temperature: -40°C; Series: XAL4030; Termination: SMD/SMT; Inductance Tolerance: 20%; Shielding: Shielded; RMS Current (Irms): 5.1A; Lead Free: Contains Lead; Manufacturer Part Number: XAL4030-472MEC
footprint FP-XAL4030-472MEC-MFG
pins: 1, 2

## CMP-12153-000011-1
designator U?, comment LD39200PU33R
IC REG LINEAR 3.3V 2A 6DFN; Manufacturer: STMicroelectronics; Number of Outputs: 1; Max Input Voltage: 6V; Output Type: Fixed; Min Input Voltage: 1.25V; Dropout Voltage: 130mV; Operating Supply Current: 1mA; Number of Regulators: 1; Case/Package: DFN; Packaging: Tape and Reel; Output Current: 2A; Min Operating Temperature: -40°C; Mount: Surface Mount; Output Voltage: 3.3V; Max Operating Temperature: 125°C; Lead Free: Lead Free; Package Quantity: 3000; Manufacturer Part Number: LD39200PU33R
footprint FP-DFN6-7946637-MFG
footprint FP-DFN6-7946637-IPC_C
footprint FP-DFN6-7946637-IPC_B
footprint FP-DFN6-7946637-IPC_A
pins: 1 OUT (power), 2 SENSE (in), 3 GND (power), 4 PG (oc), 5 EN (in), 6 IN (power), 7 GND (power)

## CMP-26527-006412-1
designator R?, comment RMCF0603ZG0R00
0Ω ±0 0.1W 0603 Thick Film Chip Resistor AEC-Q200 compliant; Manufacturer: Stackpole Electronics; Max Power Dissipation: 100mW; Resistance: 0R; Width: 0.031inch; RoHS Compliant: Yes; Number of Terminations: 2; Case/Package: 0603; Contact Plating: Tin; Height: 0.022inch; Resistor Type: Thick Film; Mount: Surface Mount; Length: 0.061inch; Features: Automotive AEC-Q200; Series: RMCF; Max Operating Temperature: 155°C; Radiation Hardening: No; Min Operating Temperature: -55°C; Packaging: Tape and Reel; Manufacturer Part Number: RMCF0603ZG0R00
footprint FP-RMCF0603-IPC_B
footprint FP-RMCF0603-IPC_C
footprint FP-RMCF0603-IPC_A
footprint FP-RMCF0603-MFG
pins: 1, 2

## CMP-97513-000003-1
designator L?, comment MABAES0060
BALUN 300KHZ-200MHZ 1:1 6SMD; Manufacturer: MACOM; Insertion Loss: 1.5dB; Lead/Base Style: Gull Wing; Max DC Current: 500mA; Power Rating: 500mW; Package Quantity: 2000; Lead Free: Lead Free; Case/Package: SMD/SMT; Number of Pins: 5; Width: 3.81mm; Turns Ratio: 1:1; Depth: 3.81mm; Height: 2.67mm; Min Operating Temperature: -40°C; Termination: SMD/SMT; Length: 3.81mm; Max Operating Temperature: 85°C; Packaging: Tape and Reel; Radiation Hardening: No; Mount: Surface Mount; Manufacturer Part Number: MABAES0060
footprint FP-MABAES0060-MFG
pins: 1 Secondary, 2 Secondary CT, 3 Secondary Dot, 4 Primary dot, 5 Primary

## CMP-250906-228113-1
designator R?, comment TFCR0603-10W-E-5001BT
RES Thin Film,  4kΩ, 0.1%, 0.1W, 25ppm/°C, 0603; Manufacturer: Venkel; Manufacturer Part Number: TFCR0603-10W-E-5001BT
footprint FP-TFCR0603-IPC_C
footprint FP-TFCR0603-IPC_B
footprint FP-TFCR0603-MFG
footprint FP-TFCR0603-IPC_A
pins: 1, 2

## MP5000ADQ-LF-P
designator IC?
Integrated Circuit; Manufacturer_Name: Monolithic Power Systems (MPS); Datasheet Link: https://www.monolithicpower.com/en/documentview/productdocument/index/version/2/document_type/Datasheet/lang/en/sku/MP5000A/; Height: 1mm; Manufacturer_Part_Number: MP5000ADQ-LF-P; Mouser Part Number: 946-MP5000ADQ-LF-P; Mouser Price/Stock: https://www.mouser.co.uk/ProductDetail/Monolithic-Power-Systems-MPS/MP5000ADQ-LF-P?qs=%252BZix9lVCYc%252BkK4nDbCRuaQ%3D%3D
footprint SON50P300X300X100-11N-D
pins: 1 GND, 2 DV/DT, 3 ENABLE/FAULT, 4 I-LIMIT, 5 N/C, 6 SOURCE_1, 7 SOURCE_2, 8 SOURCE_3, 9 SOURCE_4, 10 SOURCE_5, 11 VCC

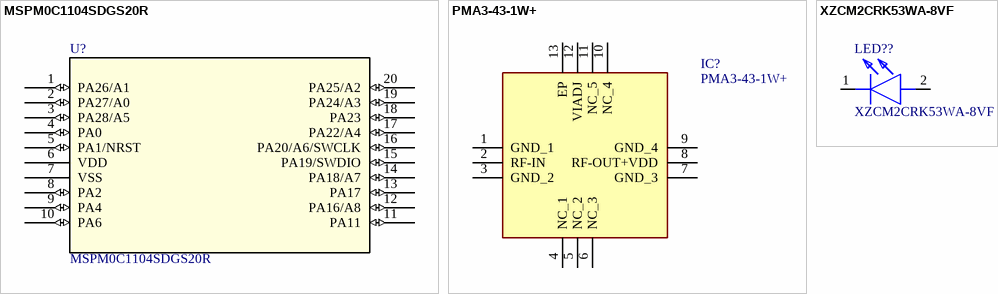
[diagram p1: symbols MSPM0C1104SDGS20R to XZCM2CRK53WA-8VF]

## MSPM0C1104SDGS20R
designator U?
24MHz ArmÂ® CortexÂ®-M0+ MCU with 16KB flash, 1KB SRAM, 12-bit ADC 20-VSSOP -40 to 125; Manufacturer_Name: Texas Instruments; Copyright: Copyright (C) 2025 Ultra Librarian. All rights reserved.; Manufacturer_Part_Number: MSPM0C1104SDGS20R; Datasheet: https://www.ti.com/lit/gpn/mspm0c1104; RefDes: RefDes; Type: Type
footprint DGS0020A_TEX
pins: 1 PA26/A1 (io), 2 PA27/A0 (io), 3 PA28/A5 (io), 4 PA0 (io), 5 PA1/NRST (io), 6 VDD (power), 7 VSS (power), 8 PA2 (io), 9 PA4 (io), 10 PA6 (io), 11 PA11 (io), 12 PA16/A8 (io), 13 PA17 (io), 14 PA18/A7 (io), 15 PA19/SWDIO (io), 16 PA20/A6/SWCLK (io), 17 PA22/A4 (io), 18 PA23 (io), 19 PA24/A3 (io), 20 PA25/A2 (io)

## PMA3-43-1W+
designator IC?
Integrated Circuit; Manufacturer_Name: Mini-Circuits; Datasheet Link: https://www.minicircuits.com/pdfs/PMA3-43-1W+.pdf; Height: 0.89mm; Manufacturer_Part_Number: PMA3-43-1W+
footprint QFN51P300X300X89-13N
pins: 1 GND_1, 2 RF-IN, 3 GND_2, 4 NC_1, 5 NC_2, 6 NC_3, 7 GND_3, 8 RF-OUT+VDD, 9 GND_4, 10 NC_4, 11 NC_5, 12 VIADJ, 13 EP

## XZCM2CRK53WA-8VF
designator LED??
LED; Manufacturer_Name: SunLED; Datasheet Link: https://datasheet.datasheetarchive.com/originals/distributors/Datasheets_SAMA/e996e994ade8bc327c2da19cfbdeeadc.pdf; Height: 1.1mm; Manufacturer_Part_Number: XZCM2CRK53WA-8VF
footprint XZCFBB53W8VF
pins: 1 K, 2 A